# EAGLE library part 691311700108 (library Wurth_Elektronik_Electromechanic_Terminal_Blocks_Connectors_rev15c)
WR-TBL Serie 3117 - 5.0mm Close Vertical PCB Header , 8 Pins=>Code : Con_TBL_Pluggable_5.00_PCB_V_691311700108 <http://katalog.we-online.de/media/images/eican/Con_TBL_Pluggable_5.00_PCB_V_6913117001xx_pf2.jpg> Details see: http://katalog.we-online.de/en/em/691_311_700_1xx Created 2014-06-19, Karrer Zheng 2014 (C) Würth Elektronik
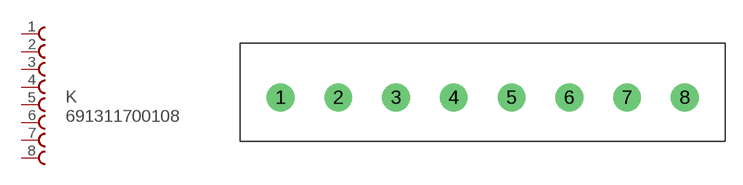
[diagram p61: symbol with the pads of 691311700108; footprint 691311700108]

Designator prefix K

## 691311700108  [691311700108]
1  1  pas
2  2  pas
3  3  pas
4  4  pas
5  5  pas
6  6  pas
7  7  pas
8  8  pas

## Footprint 691311700108 (pad centres in mm)
WR-TBL Serie 3117 - 5.0mm Close Vertical PCB Header , 8 Pins
drill 1.6: 1 -5,0; 2 0,0; 3 5,0; 4 10,0; 5 15,0; 6 20,0; 7 25,0; 8 30,0